# EAGLE library part 64901029522 (library Wuerth_Elektronik_eiCan_07_Mini_Power_Connectors)
WR-MPC4-4.20mm Male Dual Row Angled Header,10 pins
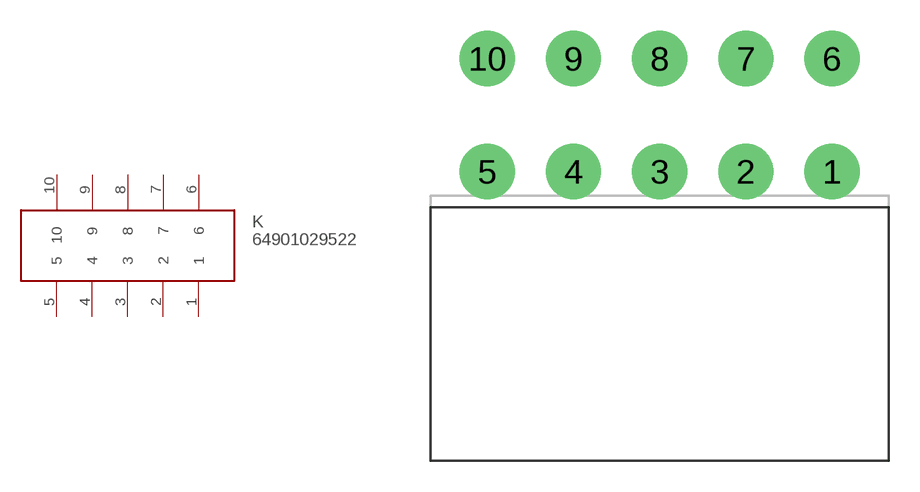
[diagram p2: symbol with the pads of 64901029522; footprint 64901029522]

Designator prefix K

## 64901029522  [64901029522]
1  1
2  2
3  3
4  4
5  5
6  6
7  7
8  8
9  9
10  10

## Footprint 64901029522 (pad centres in mm)
WR-MPC4-4.20mm Male Dual Row Angled Header,10 pins
drill 1.8 round: 1 6.285,-2.75; 2 2.085,-2.75; 3 -2.115,-2.75; 4 -6.315,-2.75; 5 -10.515,-2.75; 6 6.285,2.75; 7 2.085,2.75; 8 -2.115,2.75; 9 -6.315,2.75; 10 -10.515,2.75